# EAGLE library part CD4068B (library Long-Island-Ice-Tea)
CD4068B CMOS 8-Input NAND/AND Gate http://www.ti.com/product/cd4068b
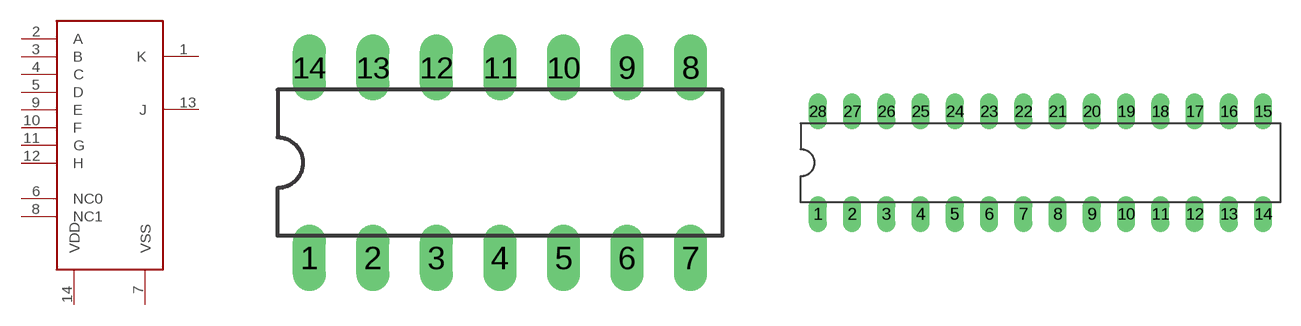
[diagram p0: symbol with the pads of DIL-14; footprints DIL-14, DIL28-3]

Designator prefix -

## CD4068BDIL14  [DIL-14]
1  K
2  A
3  B
4  C
5  D
6  NC0
7  VSS
8  NC1
9  E
10  F
11  G
12  H
13  J
14  VDD

## CD4068BDIL28-3  [DIL28-3]
1  K
2  A
3  B
4  C
5  D
6  NC0
7  VSS
22  NC1
23  E
24  F
25  G
26  H
27  J
28  VDD

## Footprint DIL-14 (pad centres in mm)
DIL-14 Standard 14 pin Dual In Line package http://en.wikipedia.org/wiki/Dual_in-line_package
drill 0.813 long: 1 -7.62,-3.81; 2 -5.08,-3.81; 3 -2.54,-3.81; 4 0,-3.81; 5 2.54,-3.81; 6 5.08,-3.81; 7 7.62,-3.81; 8 7.62,3.81; 9 5.08,3.81; 10 2.54,3.81; 11 0,3.81; 12 -2.54,3.81; 13 -5.08,3.81; 14 -7.62,3.81

## Footprint DIL28-3 (pad centres in mm)
DIL28-3 Standard 28 pin dual in line package.
drill 0.813 long: 1 -16.51,-3.81; 2 -13.97,-3.81; 3 -11.43,-3.81; 4 -8.89,-3.81; 5 -6.35,-3.81; 6 -3.81,-3.81; 7 -1.27,-3.81; 8 1.27,-3.81; 9 3.81,-3.81; 10 6.35,-3.81; 11 8.89,-3.81; 12 11.43,-3.81; 13 13.97,-3.81; 14 16.51,-3.81; 15 16.51,3.81; 16 13.97,3.81; 17 11.43,3.81; 18 8.89,3.81; 19 6.35,3.81; 20 3.81,3.81; 21 1.27,3.81; 22 -1.27,3.81; 23 -3.81,3.81; 24 -6.35,3.81; 25 -8.89,3.81; 26 -11.43,3.81; 27 -13.97,3.81; 28 -16.51,3.81